# Altium schematic symbol library Schlib1.SchLib: 1 symbol
Pins are listed as number, name and electrical type; pins without a type are passive.

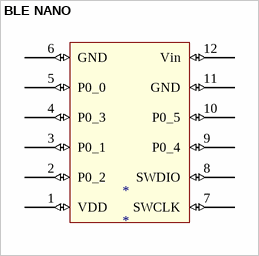
[diagram p0: symbol BLE NANO]

## BLE NANO
designator *
footprint BLE_NANO
pins: 1 VDD (io), 2 P0_2 (io), 3 P0_1 (io), 4 P0_3 (io), 5 P0_0 (io), 6 GND (io), 7 SWCLK (io), 8 SWDIO (io), 9 P0_4 (io), 10 P0_5 (io), 11 GND (io), 12 Vin (io)